# EAGLE library part L2G2IS (library UpBoard B)
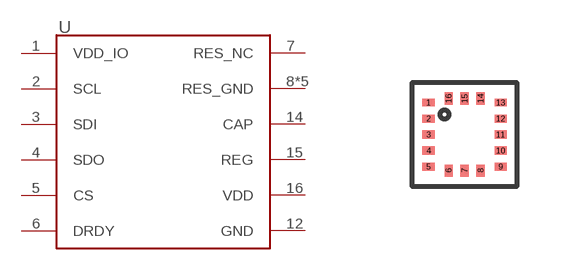
[diagram p6: symbol with the pads of L2G2IS; footprint L2G2IS]

Designator prefix -

## L2G2IS  [L2G2IS]
1  VDD_IO
2  SCL
3  SDI
4  SDO
5  CS
6  DRDY
7  RES_NC
8  RES_GND
9  RES_GND
10  RES_GND
11  RES_GND
12  GND
13  RES_GND
14  CAP
15  REG
16  VDD

## Footprint L2G2IS (pad centres in mm)
smd 0.3 x 0.2: 1 -0.9,0.8; 2 -0.9,0.4; 3 -0.9,0; 4 -0.9,-0.4; 5 -0.9,-0.8; 9 0.9,-0.8; 10 0.9,-0.4; 11 0.9,0; 12 0.9,0.4; 13 0.9,0.8
smd 0.2 x 0.3: 6 -0.4,-0.9; 7 0,-0.9; 8 0.4,-0.9; 14 0.4,0.9; 15 0,0.9; 16 -0.4,0.9